# EAGLE library part MUX_74HC4051_NXP (library 1_ZeroUI)
74HC4051 8-Channel analog Multiplexer/Demultiplexer The 74HC4051; 74HCT4051 is a single-pole octal-throw analog switch (SP8T) suitable for use in analog or digital 8:1 multiplexer/demultiplexer applications. The switch features three digital select inputs (S0, S1 and S2), eight independent inputs/outputs (Yn), a common input/output (Z) and a digital enable input (E). When E is HIGH, the switches are turned off. Inputs include clamp diodes. This enables the use of current limiting resistors to interface inputs to voltages in excess of VCC http://www.nxp.com/documents/data_sheet/74HC_HCT4051.pdf
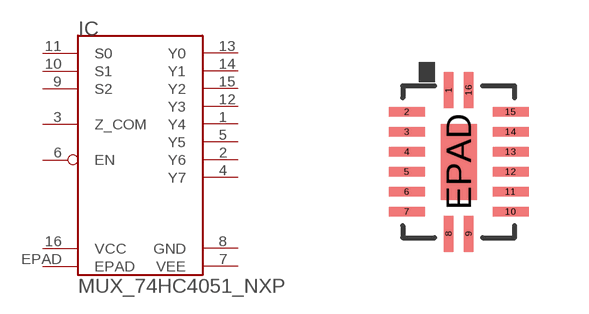
[diagram p13: symbol with the pads of DHVQFN16; footprint DHVQFN16]

Designator prefix IC

## MUX_74HC4051_NXP (VALUE: 74HC4051_DHVQFN16)  [DHVQFN16]
1  Y4
2  Y6
3  Z_COM
4  Y7
5  Y5
6  EN
7  VEE
8  GND
9  S2
10  S1
11  S0
12  Y3
13  Y0
14  Y1
15  Y2
16  VCC
EPAD  EPAD

## Footprint DHVQFN16 (pad centres in mm)
smd 0.24 x 0.9: 1 -0.25,1.8; 8 -0.25,-1.8; 9 0.25,-1.8; 16 0.25,1.8
smd 0.9 x 0.24: 2 -1.3,1.25; 3 -1.3,0.75; 4 -1.3,0.25; 5 -1.3,-0.25; 6 -1.3,-0.75; 7 -1.3,-1.25; 10 1.3,-1.25; 11 1.3,-0.75; 12 1.3,-0.25; 13 1.3,0.25; 14 1.3,0.75; 15 1.3,1.25
smd 0.9 x 1.9: EPAD 0,0